# Altium integrated library PCB_Project1.IntLib: 17 symbols
Pins are listed as number, name and electrical type; pins without a type are passive.

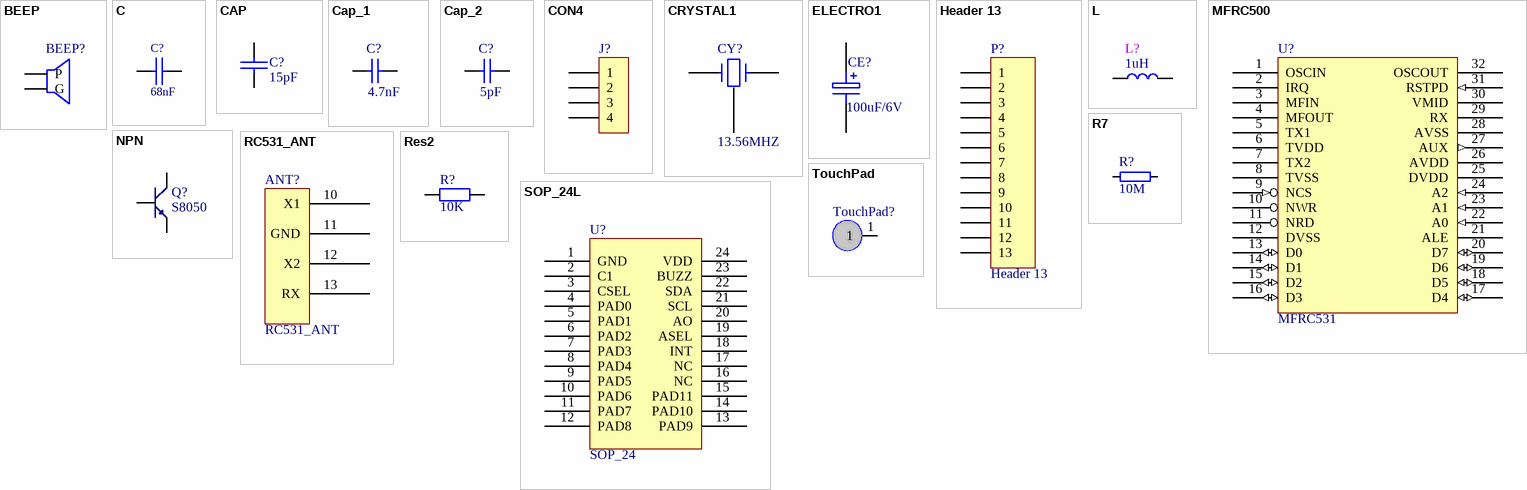
[diagram p0: symbols BEEP to TouchPad]

## BEEP
designator BEEP?  (value not drawn)
footprint BUZZ0.25
footprint BELL-5
pins: 1 P, 2 G

## C
designator C?, comment 68nF
Text Field1: 10; Text Field2: 20
footprint 0603
footprint 0805
footprint C5
footprint C7.5
footprint 0603 (Chip Inductor, Body 0.6x0.3mm, IPC High Density)
pins: 1, 2
2 alternate drawings of the same symbol

## CAP
designator C?, comment 15pF
Capacitor
footprint 0603 (Chip Inductor, Body 0.6x0.3mm, IPC High Density)
pins: 1, 2

## Cap_1
designator C?, comment 4.7nF
Capacitor; Published: 8-Jun-2000; LatestRevisionDate: 17-Jul-2002; LatestRevisionNote: Re-released for DXP Platform.; PackageReference: RAD-0.3; Publisher: Altium Limited; Value: 4.7nF
simulation model CAP (Capacitor)
signal-integrity model Cap
footprint 0603 (Chip Inductor, Body 0.6x0.3mm, IPC High Density)
pins: 1, 2

## Cap_2
designator C?, comment 5pF
Capacitor; Published: 8-Jun-2000; LatestRevisionDate: 17-Jul-2002; LatestRevisionNote: Re-released for DXP Platform.; PackageReference: RAD-0.3; Publisher: Altium Limited; Value: 5pF
footprint 0603 (Chip Inductor, Body 0.6x0.3mm, IPC High Density)
footprint CAPR2.54-5.1x3.2 (Capacitor, Ceramic, Thru-Hole, Dipped Radial; Body 5.1 x 3.2 mm (WxT) Pin Spacing 2.54 mm (typ))
footprint CAPR5.08-7.8x3.2 (Capacitor, Ceramic, Thru-Hole, Dipped Radial; Body 7.8 x 3.2 mm (WxT) Pin Spacing 5.08 mm (typ))
simulation model CAP (Capacitor)
signal-integrity model Cap
pins: 1, 2

## CON4
designator J?
Connector
footprint HDR1X4 (Connector; Header; 4 Position)
pins: 1, 2, 3, 4

## CRYSTAL1
designator CY?, comment 13.56MHZ
Crystal
footprint SMD4_32X25
pins: 1, 2, 3

## ELECTRO1
designator CE?, comment 100uF/6V
Electrolytic Capacitor
footprint RB0.1/0.2-LIE
footprint C1210 (Chip Capacitor, Body 3.2x2.5mm, IPC High Density)
pins: 1, 2
2 alternate drawings of the same symbol

## Header 13
designator P?
Header, 13-Pin; LatestRevisionDate: 17-Jul-2002; LatestRevisionNote: Re-released for DXP Platform.; Publisher: Altium Limited
footprint HDR1X13 (Connector; Header; 13 Position)
signal-integrity model Connector
pins: 1, 2, 3, 4, 5, 6, 7, 8, 9, 10, 11, 12, 13

## L
designator L?, comment 1uH
Text Field1: 10; Text Field2: 20
footprint 0603
footprint 0805
footprint L10
footprint R0402
footprint 0603 (Chip Inductor, Body 0.6x0.3mm, IPC High Density)
pins: 1, 2
2 alternate drawings of the same symbol

## MFRC500
designator U?, comment MFRC531
footprint SOP32
pins: 1 OSCIN, 2 IRQ, 3 MFIN, 4 MFOUT, 5 TX1, 6 TVDD (power), 7 TX2, 8 TVSS (power), 9 NCS (in), 10 NWR, 11 NRD, 12 DVSS (power), 13 D0 (io), 14 D1 (io), 15 D2 (io), 16 D3 (io), 17 D4 (io), 18 D5 (io), 19 D6 (io), 20 D7 (io), 21 ALE, 22 A0 (in), 23 A1 (in), 24 A2 (in), 25 DVDD (power), 26 AVDD (power), 27 AUX (out), 28 AVSS (power), 29 RX, 30 VMID, 31 RSTPD (in), 32 OSCOUT

## NPN
designator Q?, comment S8050
8050/BCW846/BCW847
footprint SOT-23R
footprint NPN
pins: 1 E, 2 B, 3 C

## R7
designator R?, comment 10M
footprint axial0.5
footprint R0402
footprint 0603 (Chip Inductor, Body 0.6x0.3mm, IPC High Density)
pins: 1, 2
2 alternate drawings of the same symbol

## RC531_ANT
designator ANT?
footprint RC531_ANT
pins: 10 X1, 11 GND, 12 X2, 13 RX

## Res2
designator R?, comment 10K
Resistor; Published: 8-Jun-2000; LatestRevisionDate: 17-Jul-2002; LatestRevisionNote: Re-released for DXP Platform.; PackageReference: AXIAL-0.4; Publisher: Altium Limited; Value: 10K
footprint 0603 (Chip Inductor, Body 0.6x0.3mm, IPC High Density)
simulation model RESISTOR (Resistor)
signal-integrity model Res
pins: 1, 2

## SOP_24L
designator U?, comment SOP_24
footprint SOP24
pins: 1 GND, 2 C1, 3 CSEL, 4 PAD0, 5 PAD1, 6 PAD2, 7 PAD3, 8 PAD4, 9 PAD5, 10 PAD6, 11 PAD7, 12 PAD8, 13 PAD9, 14 PAD10, 15 PAD11, 16 NC, 17 NC, 18 INT, 19 ASEL, 20 AO, 21 SCL, 22 SDA, 23 BUZZ, 24 VDD

## TouchPad
designator TouchPad?  (value not drawn)
footprint TouchKey
pins: 1